# EAGLE library part M8S-04PFFR-SF8001 (library M8S-04PFFR-SF8001)
AMPHENOL LTW - M8S-04PFFR-SF8001 - SENSOR CONNECTOR, M8, RCPT, 4POS Source: Datasheet <http://uk.rs-online.com/web/p/products/1747629>
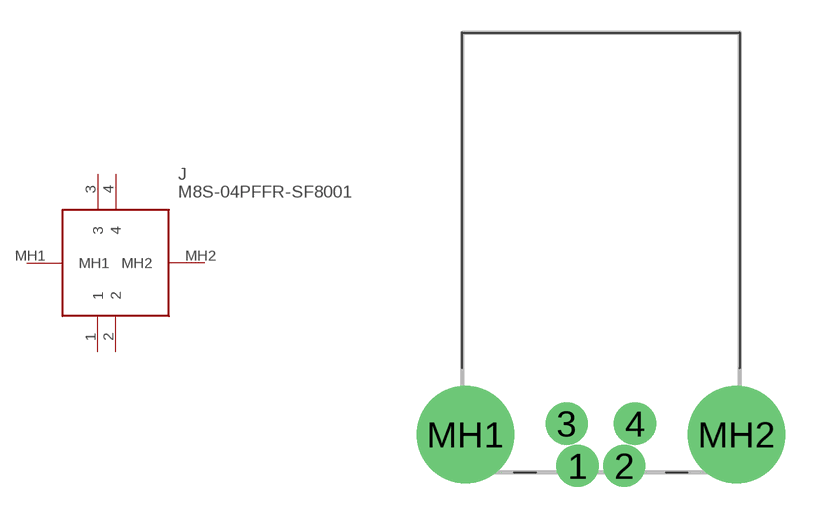
[diagram p0: symbol with the pads of M8S04PFFRSF8001; footprint M8S04PFFRSF8001]

Designator prefix J

## M8S-04PFFR-SF8001 (Allied_Number: 70970691; Description: AMPHENOL LTW - M8S-04PFFR-SF8001 - SENSOR CONNECTOR, M8, RCPT, 4POS; Height: 16mm; Manufacturer_Name: Amphenol; Manufacturer_Part_Number: M8S-04PFFR-SF8001; RS_Part_Number: 1747629; RS_Price-Stock: http://uk.rs-online.com/web/p/products/1747629)  [M8S04PFFRSF8001]
1  1
2  2
3  3
4  4
MH1  MH1
MH2  MH2

## Footprint M8S04PFFRSF8001 (pad centres in mm)
M8S-04PFFR-SF8001-2
drill 1.3 pad 1.8: 1 0,0; 2 2.15,0; 3 -0.5,1.95; 4 2.65,1.95
drill 3 pad 4.5: MH1 -5.175,1.45; MH2 7.325,1.45